# Altium footprint library CONN HEADERS 4.2MM PITCH (5.5MM ROWS).PcbLib: 4 footprints
Each footprint in its own frame and in the unit in brackets; x right, y up, seen from the top. Pads: shape width x height; smd on the part's side, far side on the other; paste and mask are expansions set on the pad; w line width, h text height; cw(c..) or ccw(c..) is an arc to the next point about the centre after c.
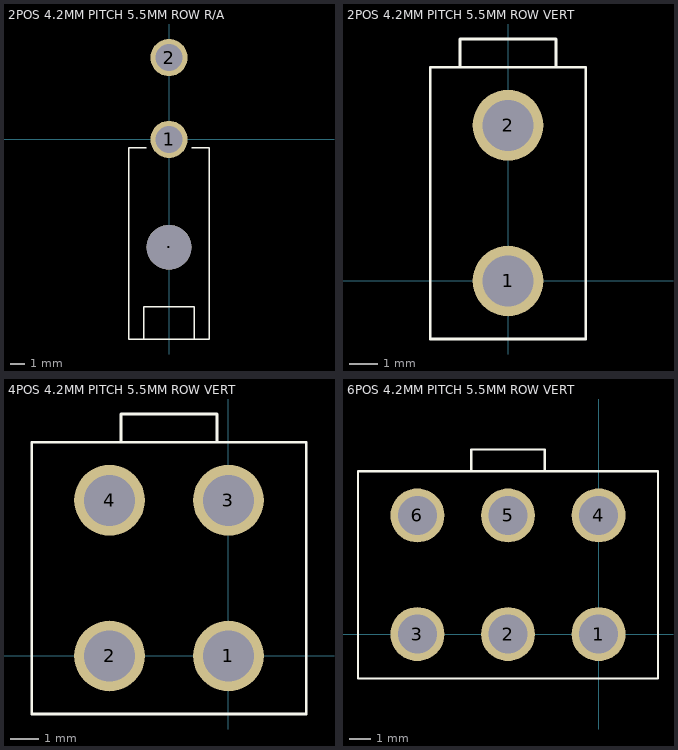
[diagram p0: the footprints below, top view; thin cyan lines are the x and y axes]

## 2POS 4.2MM PITCH 5.5MM ROW R/A [mm] "2POS 4.2MM PITCH 5.5MM ROW RIGHT ANGLE"
height 13
pads (3):
  round 2.5 hole 1.8: 1(0,0) 2(0,5.5)
  round 3 hole 3: .(0,-7.25)
Top Overlay:
  lines w0.1: -1.7,-13.42 -1.7,-11.25 1.7,-11.25 1.7,-13.42 ; -1.52,-0.57 -2.7,-0.57 -2.7,-13.42 2.7,-13.42 2.7,-0.57 1.52,-0.57
3D body "39-30-1020.SLDPRT": height 11.4, standoff -3.6, extent -2.7,-13.91 3.1,6.025

## 2POS 4.2MM PITCH 5.5MM ROW VERT [mm] "2POS 4.2MM PITCH 5.5MM ROW VERTICAL"
height 13
pads (2):
  round 2.5 hole 1.8: 1(0,0) 2(0,5.5)
Top Overlay:
  lines w0.1: -1.7,7.55 -1.7,8.55 0,8.55 1.7,8.55 1.7,7.55 ; -2.75,-2.05 0,-2.05 2.75,-2.05 2.75,2.75 2.75,7.55 0,7.55 -2.75,7.55 -2.75,2.75 -2.75,-2.05
3D body "39-28-1023.SLDPRT": height 12.8, standoff -3.5, extent -3.1,-2.05 3.1,8.95

## 4POS 4.2MM PITCH 5.5MM ROW VERT [mm] "4POS 4.2MM PITCH 5.5MM ROW VERT"
height 13
pads (4):
  round 2.5 hole 1.8: 1(0,0) 2(-4.2,0) 3(0,5.5) 4(-4.2,5.5)
Top Overlay:
  lines w0.1: -3.8,7.55 -3.8,8.55 -2.1,8.55 -0.4,8.55 -0.4,7.55 ; -6.95,-2.05 0,-2.05 2.75,-2.05 2.75,2.75 2.75,7.55 0,7.55 -6.95,7.55 -6.95,2.75 -6.95,-2.05
3D body "39-28-1043.SLDPRT": height 12.8, standoff -3.5, extent -7.25,-2.05 3.15,8.95

## 6POS 4.2MM PITCH 5.5MM ROW VERT [mm] "6POS 4.2MM PITCH 5.5MM ROW VERT"
height 13
pads (6):
  round 2.5 hole 1.8: 1(0,0) 2(-4.2,0) 3(-8.4,0) 4(0,5.5) 5(-4.2,5.5) 6(-8.4,5.5)
Top Overlay:
  lines w0.1: -5.9,7.55 -5.9,8.55 -4.2,8.55 -2.5,8.55 -2.5,7.55 ; -11.15,-2.05 -11.15,2.75 -11.15,7.55 -8.4,7.55 0,7.55 2.75,7.55 2.75,2.75 2.75,-2.05 0,-2.05 -8.4,-2.05 -11.15,-2.05